# Altium footprint library Senior-Design-Parts_Library.PcbLib: 2 footprints
Each footprint in its own frame and in the unit in brackets; x right, y up, seen from the top. Pads: shape width x height; smd on the part's side, far side on the other; paste and mask are expansions set on the pad; w line width, h text height; cw(c..) or ccw(c..) is an arc to the next point about the centre after c.
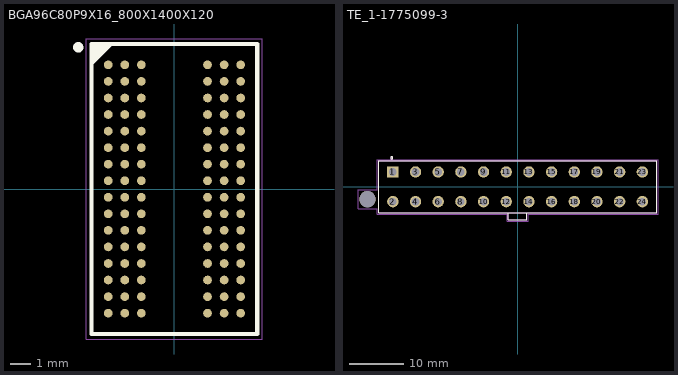
[diagram p0: the footprints below, top view; thin cyan lines are the x and y axes]

## BGA96C80P9X16_800X1400X120 [mm] "BGA, 96-Leads, Body 8.00x14.00mmx1.20mm, Pitch 0.80mm"
height 1.2
pads (96):
  round 0.42 smd: A1(-3.2,6) A2(-2.4,6) A3(-1.6,6) A7(1.6,6) A8(2.4,6) A9(3.2,6) B1(-3.2,5.2) B2(-2.4,5.2) B3(-1.6,5.2) B7(1.6,5.2) B8(2.4,5.2) B9(3.2,5.2) C1(-3.2,4.4) C2(-2.4,4.4) C3(-1.6,4.4) C7(1.6,4.4) C8(2.4,4.4) C9(3.2,4.4) D1(-3.2,3.6) D2(-2.4,3.6) D3(-1.6,3.6) D7(1.6,3.6) D8(2.4,3.6) D9(3.2,3.6) E1(-3.2,2.8) E2(-2.4,2.8) E3(-1.6,2.8) E7(1.6,2.8) E8(2.4,2.8) E9(3.2,2.8) F1(-3.2,2) F2(-2.4,2) F3(-1.6,2) F7(1.6,2) F8(2.4,2) F9(3.2,2) G1(-3.2,1.2) G2(-2.4,1.2) G3(-1.6,1.2) G7(1.6,1.2) G8(2.4,1.2) G9(3.2,1.2) H1(-3.2,0.4) H2(-2.4,0.4) H3(-1.6,0.4) H7(1.6,0.4) H8(2.4,0.4) H9(3.2,0.4) J1(-3.2,-0.4) J2(-2.4,-0.4) J3(-1.6,-0.4) J7(1.6,-0.4) J8(2.4,-0.4) J9(3.2,-0.4) K1(-3.2,-1.2) K2(-2.4,-1.2) K3(-1.6,-1.2) K7(1.6,-1.2) K8(2.4,-1.2) K9(3.2,-1.2) L1(-3.2,-2) L2(-2.4,-2) L3(-1.6,-2) L7(1.6,-2) L8(2.4,-2) L9(3.2,-2) M1(-3.2,-2.8) M2(-2.4,-2.8) M3(-1.6,-2.8) M7(1.6,-2.8) M8(2.4,-2.8) M9(3.2,-2.8) N1(-3.2,-3.6) N2(-2.4,-3.6) N3(-1.6,-3.6) N7(1.6,-3.6) N8(2.4,-3.6) N9(3.2,-3.6) P1(-3.2,-4.4) P2(-2.4,-4.4) P3(-1.6,-4.4) P7(1.6,-4.4) P8(2.4,-4.4) P9(3.2,-4.4) R1(-3.2,-5.2) R2(-2.4,-5.2) R3(-1.6,-5.2) R7(1.6,-5.2) R8(2.4,-5.2) R9(3.2,-5.2) T1(-3.2,-6) T2(-2.4,-6) T3(-1.6,-6) T7(1.6,-6) T8(2.4,-6) T9(3.2,-6)
Top Overlay:
  circle w0.25: c-4.65,6.85 r0.125
  region: -3.063,7 -4,6.063 -4,7
  lines w0.2: -4,6.063 -3.063,7 ; -4,-7 -4,7 4,7 4,-7 -4,-7
Mechanical 13:
  lines w0.1: -4,-7 -4,7 4,7 4,-7 -4,-7
Mechanical 15:
  lines w0.05: -4.25,-7.25 -4.25,7.25 4.25,7.25 4.25,-7.25 -4.25,-7.25
3D body: height 1.2, standoff 0.34, extent -4,-7 4,7

## TE_1-1775099-3 [mm]
pads (25):
  rect 2.1x2.1 hole 1.4: 1(-23.1,2.75)
  round 2.1 hole 1.4: 2(-23.1,-2.75) 3(-18.9,2.75) 4(-18.9,-2.75) 5(-14.7,2.75) 6(-14.7,-2.75) 7(-10.5,2.75) 8(-10.5,-2.75) 9(-6.3,2.75) 10(-6.3,-2.75) 11(-2.1,2.75) 12(-2.1,-2.75) 13(2.1,2.75) 14(2.1,-2.75) 15(6.3,2.75) 16(6.3,-2.75) 17(10.5,2.75) 18(10.5,-2.75) 19(14.7,2.75) 20(14.7,-2.75) 21(18.9,2.75) 22(18.9,-2.75) 23(23.1,2.75) 24(23.1,-2.75)
  round 3 hole 3 unplated: None(-27.8,-2.29)
Top Overlay:
  circle w0.203: c-23.3,5.35 r0.2
  lines w0.127: -1.7,-4.8 -1.7,-6.1 1.7,-6.1 1.7,-4.8 ; -1.7,-4.8 -25.75,-4.8 -25.75,4.8 25.75,4.8 25.75,-4.8 1.7,-4.8 ; -1.7,-4.8 1.7,-4.8
Mechanical 1:
  circle w0.203: c-23.3,5.35 r0.2
  lines w0.05: -29.55,-4.04 -26,-4.04 -26,-5.05 -1.95,-5.05 -1.95,-6.35 1.95,-6.35 1.95,-5.05 26,-5.05 26,5.05 -26,5.05 -26,-0.54 -29.55,-0.54 -29.55,-4.04
  lines w0.127: -1.7,-4.8 -1.7,-6.1 1.7,-6.1 1.7,-4.8 ; -1.7,-4.8 1.7,-4.8 ; -1.7,-4.8 -25.75,-4.8 -25.75,4.8 25.75,4.8 25.75,-4.8 1.7,-4.8